# Altium footprint library IPC-7353 TSOP_65P_M.PcbLib: 4 footprints
Each footprint in its own frame and in the unit in brackets; x right, y up, seen from the top. Pads: shape width x height; smd on the part's side, far side on the other; paste and mask are expansions set on the pad; w line width, h text height; cw(c..) or ccw(c..) is an arc to the next point about the centre after c.
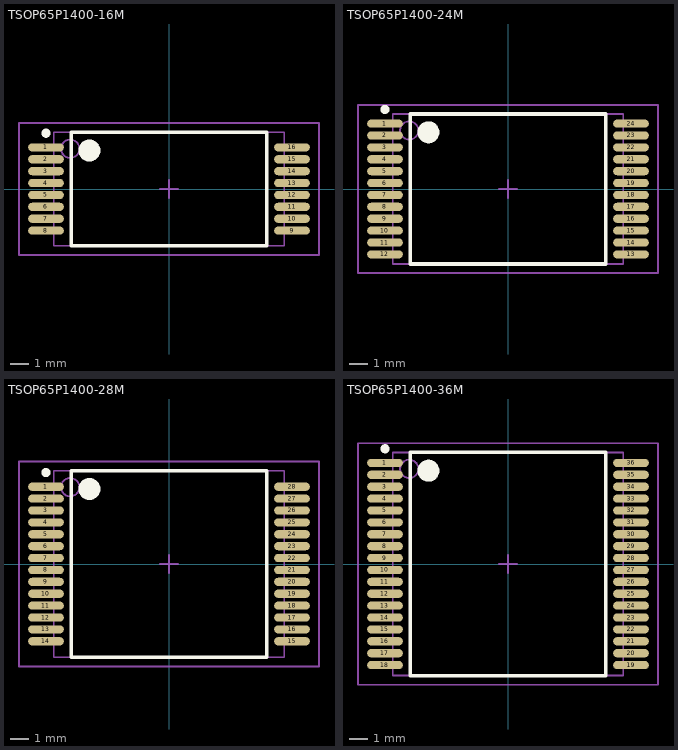
[diagram p0: the footprints below, top view; thin cyan lines are the x and y axes]

## TSOP65P1400-16M  [mm] "TSOP ,16-Leads, Body 6.2x12.6 mm; Pitch 0.65mm, IPC Low Density"
height 1.27
pads (16):
  oval 1.95x0.45 smd: 1(-6.725,2.275) 2(-6.725,1.625) 3(-6.725,0.975) 4(-6.725,0.325) 5(-6.725,-0.325) 6(-6.725,-0.975) 7(-6.725,-1.625) 8(-6.725,-2.275) 9(6.725,-2.275) 10(6.725,-1.625) 11(6.725,-0.975) 12(6.725,-0.325) 13(6.725,0.325) 14(6.725,0.975) 15(6.725,1.625) 16(6.725,2.275)
Top Overlay:
  circle w0.6: c-4.35,2.1 r0.3
  circle w0.25: c-6.725,3.05 r0.125
  lines w0.2: -5.35,-3.1 5.35,-3.1 5.35,3.1 -5.35,3.1 -5.35,-3.1
Mechanical 13:
  circle w0.1: c-5.4,2.2 r0.5
  lines w0.1: -6.3,-3.1 6.3,-3.1 6.3,3.1 -6.3,3.1 -6.3,-3.1
Mechanical 15:
  lines w0.1: -0.5,0 0.5,0 ; 0,-0.5 0,0.5 ; -8.2,-3.6 8.2,-3.6 8.2,3.6 -8.2,3.6 -8.2,-3.6
3D body: height 1.27, standoff 0, extent -6.3,-3.1 6.3,3.1

## TSOP65P1400-24M  [mm] "TSOP ,24-Leads, Body 8.2x12.6 mm; Pitch 0.65mm, IPC Low Density"
height 1.27
pads (24):
  oval 1.95x0.45 smd: 1(-6.725,3.575) 2(-6.725,2.925) 3(-6.725,2.275) 4(-6.725,1.625) 5(-6.725,0.975) 6(-6.725,0.325) 7(-6.725,-0.325) 8(-6.725,-0.975) 9(-6.725,-1.625) 10(-6.725,-2.275) 11(-6.725,-2.925) 12(-6.725,-3.575) 13(6.725,-3.575) 14(6.725,-2.925) 15(6.725,-2.275) 16(6.725,-1.625) 17(6.725,-0.975) 18(6.725,-0.325) 19(6.725,0.325) 20(6.725,0.975) 21(6.725,1.625) 22(6.725,2.275) 23(6.725,2.925) 24(6.725,3.575)
Top Overlay:
  circle w0.6: c-4.35,3.1 r0.3
  circle w0.25: c-6.725,4.35 r0.125
  lines w0.2: -5.35,-4.1 5.35,-4.1 5.35,4.1 -5.35,4.1 -5.35,-4.1
Mechanical 13:
  circle w0.1: c-5.4,3.2 r0.5
  lines w0.1: -6.3,-4.1 6.3,-4.1 6.3,4.1 -6.3,4.1 -6.3,-4.1
Mechanical 15:
  lines w0.1: -0.5,0 0.5,0 ; 0,-0.5 0,0.5 ; -8.2,-4.6 8.2,-4.6 8.2,4.6 -8.2,4.6 -8.2,-4.6
3D body: height 1.27, standoff 0, extent -6.3,-4.1 6.3,4.1

## TSOP65P1400-28M  [mm] "TSOP ,28-Leads, Body 10.2x12.6 mm; Pitch 0.65mm, IPC Low Density"
height 1.27
pads (28):
  oval 1.95x0.45 smd: 1(-6.725,4.225) 2(-6.725,3.575) 3(-6.725,2.925) 4(-6.725,2.275) 5(-6.725,1.625) 6(-6.725,0.975) 7(-6.725,0.325) 8(-6.725,-0.325) 9(-6.725,-0.975) 10(-6.725,-1.625) 11(-6.725,-2.275) 12(-6.725,-2.925) 13(-6.725,-3.575) 14(-6.725,-4.225) 15(6.725,-4.225) 16(6.725,-3.575) 17(6.725,-2.925) 18(6.725,-2.275) 19(6.725,-1.625) 20(6.725,-0.975) 21(6.725,-0.325) 22(6.725,0.325) 23(6.725,0.975) 24(6.725,1.625) 25(6.725,2.275) 26(6.725,2.925) 27(6.725,3.575) 28(6.725,4.225)
Top Overlay:
  circle w0.6: c-4.35,4.1 r0.3
  circle w0.25: c-6.725,5 r0.125
  lines w0.2: -5.35,-5.1 5.35,-5.1 5.35,5.1 -5.35,5.1 -5.35,-5.1
Mechanical 13:
  circle w0.1: c-5.4,4.2 r0.5
  lines w0.1: -6.3,-5.1 6.3,-5.1 6.3,5.1 -6.3,5.1 -6.3,-5.1
Mechanical 15:
  lines w0.1: -0.5,0 0.5,0 ; 0,-0.5 0,0.5 ; -8.2,-5.6 8.2,-5.6 8.2,5.6 -8.2,5.6 -8.2,-5.6
3D body: height 1.27, standoff 0, extent -6.3,-5.1 6.3,5.1

## TSOP65P1400-36M  [mm] "TSOP ,36-Leads, Body 12.2x12.6 mm; Pitch 0.65mm, IPC Low Density"
height 1.27
pads (36):
  oval 1.95x0.45 smd: 1(-6.725,5.525) 2(-6.725,4.875) 3(-6.725,4.225) 4(-6.725,3.575) 5(-6.725,2.925) 6(-6.725,2.275) 7(-6.725,1.625) 8(-6.725,0.975) 9(-6.725,0.325) 10(-6.725,-0.325) 11(-6.725,-0.975) 12(-6.725,-1.625) 13(-6.725,-2.275) 14(-6.725,-2.925) 15(-6.725,-3.575) 16(-6.725,-4.225) 17(-6.725,-4.875) 18(-6.725,-5.525) 19(6.725,-5.525) 20(6.725,-4.875) 21(6.725,-4.225) 22(6.725,-3.575) 23(6.725,-2.925) 24(6.725,-2.275) 25(6.725,-1.625) 26(6.725,-0.975) 27(6.725,-0.325) 28(6.725,0.325) 29(6.725,0.975) 30(6.725,1.625) 31(6.725,2.275) 32(6.725,2.925) 33(6.725,3.575) 34(6.725,4.225) 35(6.725,4.875) 36(6.725,5.525)
Top Overlay:
  circle w0.6: c-4.35,5.1 r0.3
  circle w0.25: c-6.725,6.3 r0.125
  lines w0.2: -5.35,-6.1 5.35,-6.1 5.35,6.1 -5.35,6.1 -5.35,-6.1
Mechanical 13:
  circle w0.1: c-5.4,5.2 r0.5
  lines w0.1: -6.3,-6.1 6.3,-6.1 6.3,6.1 -6.3,6.1 -6.3,-6.1
Mechanical 15:
  lines w0.1: -0.5,0 0.5,0 ; 0,-0.5 0,0.5 ; -8.2,-6.6 8.2,-6.6 8.2,6.6 -8.2,6.6 -8.2,-6.6
3D body: height 1.27, standoff 0, extent -6.3,-6.1 6.3,6.1